# Altium schematic symbol library PE-0603PFB121ST.SchLib: 1 symbol
Pins are listed as number, name and electrical type; pins without a type are passive.

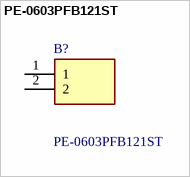
[diagram p0: symbol PE-0603PFB121ST]

## PE-0603PFB121ST
designator B?
Ferrite Beads 0603 120Ohms SMT FERRITE CHIP BEAD; Manufacturer_Name: Pulse Electronics; Geometry.Height: 0.95mm; Manufacturer_Part_Number: PE-0603PFB121ST; Mouser Part Number: 673-PE-0603PFB121ST; Mouser Price/Stock: https://www.mouser.co.uk/ProductDetail/Pulse-Electronics/PE-0603PFB121ST?qs=mXcQpiKXIAzgd58UAlJe4A%3D%3D; Arrow Part Number: PE-0603PFB121ST; Arrow Price/Stock: https://www.arrow.com/en/products/pe-0603pfb121st/pulse-electronics-corporation?region=nac; Datasheet Link: https://www.arrow.com/en/products/pe-0603pfb121st/pulse-electronics-corporation?region=nac
footprint BEADC1608X95N
pins: 1, 2